# EAGLE library part SD-READER (library common)
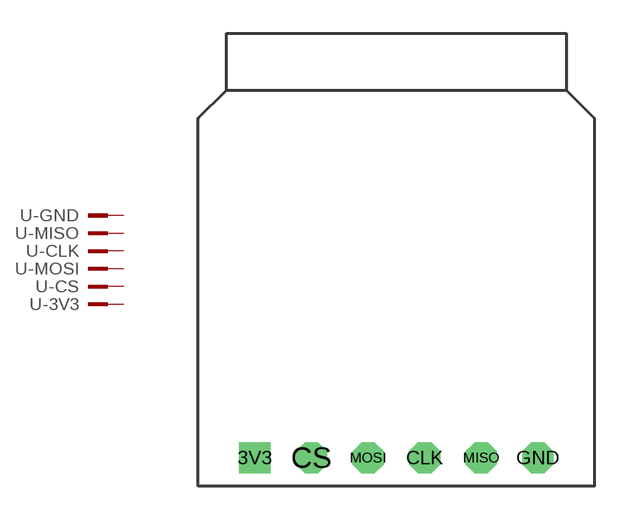
[diagram p64: symbol with the pads of SDMICRO; footprint SDMICRO]

Designator prefix -; gates -GND=PIN -MISO=PIN -CLK=PIN -MOSI=PIN -CS=PIN -3V3=PIN

## SD-READER  [SDMICRO]
3V3  -3V3:KL  pas
CLK  -CLK:KL  pas
CS  -CS:KL  pas
GND  -GND:KL  pas
MISO  -MISO:KL  pas
MOSI  -MOSI:KL  pas

## Footprint SDMICRO (pad centres in mm)
drill 0.9 square: 3V3 -6.35,0
drill 0.9 octagon: CLK 1.27,0; CS -3.81,0; GND 6.35,0; MISO 3.81,0; MOSI -1.27,0